# Altium integrated library NEC Peripheral Multifunction Controller.IntLib: 2 symbols
Pins are listed as number, name and electrical type; pins without a type are passive.

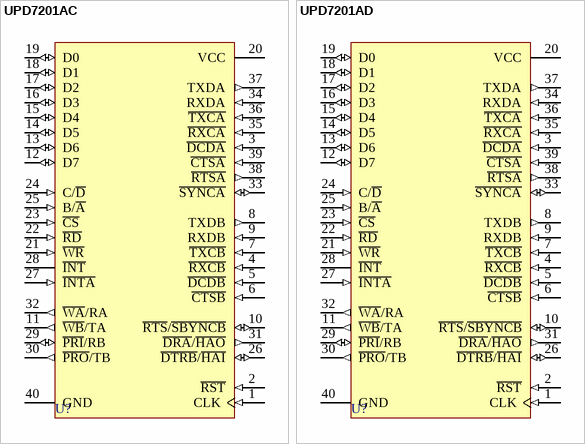
[diagram p0: symbols UPD7201AC to UPD7201AD]

## UPD7201AC
designator U?
Multiprotocol Serial Communication Controller; Published: 8-Jun-2000; LatestRevisionDate: 17-Jul-2002; LatestRevisionNote: Re-released for DXP Platform.; DatasheetVersion: 1984; PackageVersion: 1984; PackageReference: PDIP40; Publisher: Altium Limited; PackageDescription: DIP; 40 Leads; Row Spacing 15.24 mm; Pitch 2.54 mm; ComponentLink1Description: Manufacturer Link; ComponentLink1URL: http://www.necel.com/
footprint PDIP40 (DIP; 40 Leads; Row Spacing 15.24 mm; Pitch 2.54 mm)
pins: 1 CLK (in), 2 ~{RST} (in), 3 ~{DCDA} (in), 4 ~{RXCB} (in), 5 ~{DCDB} (in), 6 ~{CTSB} (in), 7 ~{TXCB} (in), 8 TXDB (out), 9 RXDB (in), 10 ~{RTS}/~{SBYNCB} (io), 11 ~{WB}/TA (out), 12 D7 (io), 13 D6 (io), 14 D5 (io), 15 D4 (io), 16 D3 (io), 17 D2 (io), 18 D1 (io), 19 D0 (io), 20 VCC (power), 21 ~{WR} (in), 22 ~{RD} (in), 23 ~{CS} (in), 24 C/~{D} (in), 25 B/~{A} (in), 26 ~{DTRB}/~{HAI} (io), 27 ~{INTA} (in), 28 ~{INT} (oc), 29 ~{PRI}/RB (io), 30 ~{PRO}/TB (out), 31 ~{DRA}/~{HAO} (out), 32 ~{WA}/RA (out), 33 ~{SYNCA} (io), 34 RXDA (in), 35 ~{RXCA} (in), 36 ~{TXCA} (in), 37 TXDA (out), 38 ~{RTSA} (out), 39 ~{CTSA} (in), 40 GND (power)

## UPD7201AD
designator U?
Multiprotocol Serial Communication Controller; Published: 8-Jun-2000; LatestRevisionDate: 17-Jul-2002; LatestRevisionNote: Re-released for DXP Platform.; DatasheetVersion: 1984; PackageVersion: 1984; PackageReference: CDIP40D; Publisher: Altium Limited; PackageDescription: DIP; 40 Leads; Row Spacing 15.24 mm; Pitch 2.54 mm; ComponentLink1Description: Manufacturer Link; ComponentLink1URL: http://www.necel.com/
footprint CDIP40D (DIP; 40 Leads; Row Spacing 15.24 mm; Pitch 2.54 mm)
pins: 1 CLK (in), 2 ~{RST} (in), 3 ~{DCDA} (in), 4 ~{RXCB} (in), 5 ~{DCDB} (in), 6 ~{CTSB} (in), 7 ~{TXCB} (in), 8 TXDB (out), 9 RXDB (in), 10 ~{RTS}/~{SBYNCB} (io), 11 ~{WB}/TA (out), 12 D7 (io), 13 D6 (io), 14 D5 (io), 15 D4 (io), 16 D3 (io), 17 D2 (io), 18 D1 (io), 19 D0 (io), 20 VCC (power), 21 ~{WR} (in), 22 ~{RD} (in), 23 ~{CS} (in), 24 C/~{D} (in), 25 B/~{A} (in), 26 ~{DTRB}/~{HAI} (io), 27 ~{INTA} (in), 28 ~{INT} (oc), 29 ~{PRI}/RB (io), 30 ~{PRO}/TB (out), 31 ~{DRA}/~{HAO} (out), 32 ~{WA}/RA (out), 33 ~{SYNCA} (io), 34 RXDA (in), 35 ~{RXCA} (in), 36 ~{TXCA} (in), 37 TXDA (out), 38 ~{RTSA} (out), 39 ~{CTSA} (in), 40 GND (power)